# Altium footprint library SCH-29364_a_Library.PcbLib: 21 footprints (part 2 of 2)
Each footprint in its own frame and in the unit in brackets; x right, y up, seen from the top. Pads: shape width x height; smd on the part's side, far side on the other; paste and mask are expansions set on the pad; w line width, h text height; cw(c..) or ccw(c..) is an arc to the next point about the centre after c.
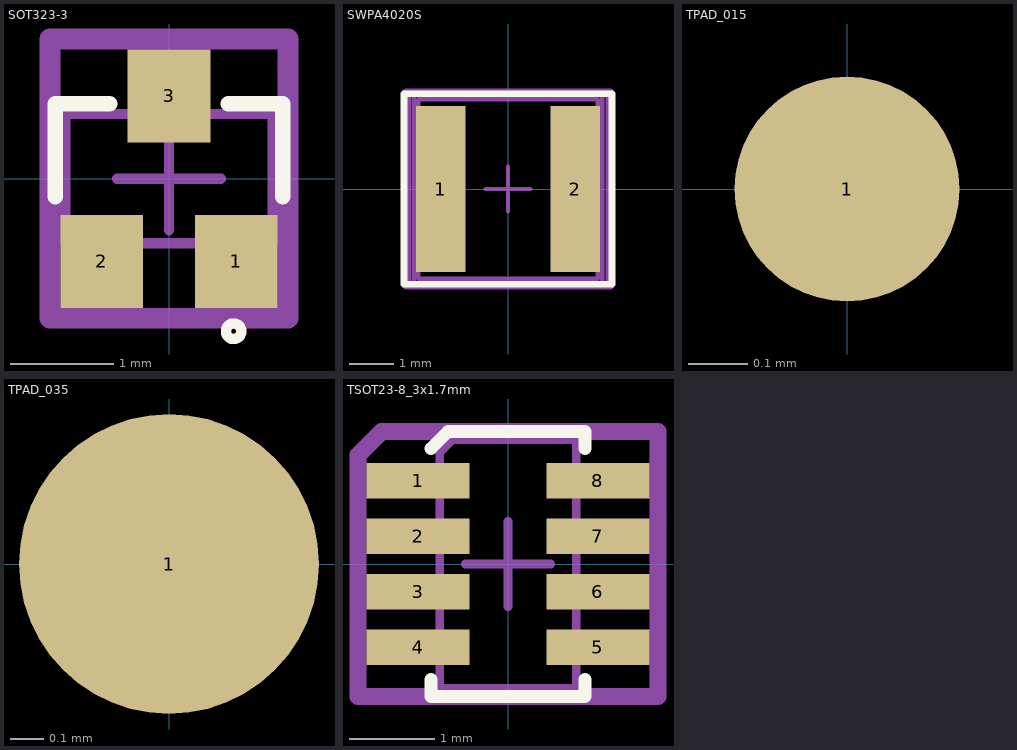
[diagram p1: the footprints below, top view; thin cyan lines are the x and y axes]

## SOT323-3 [mm]
height 0.9
pads (3):
  rect 0.8x0.9 smd paste+0 mask+0: 1(0.65,-0.8) 2(-0.65,-0.8) 3(0,0.8)
Top Overlay:
  circle w0.1: c0.625,-1.475 r0.075
  lines w0.15: -1.1,-0.175 -1.1,0.725 -0.575,0.725 ; 0.575,0.725 1.1,0.725 1.1,-0.175
Mechanical 10:
  lines w0.1: -1.15,-1.35 -1.15,1.35 1.15,1.35 1.15,-1.35 -1.15,-1.35
  text ".Designator" at 0,0 h1
Mechanical 12:
  lines w0.1: -1,-0.625 -1,0.625 1,0.625 1,-0.625 -1,-0.625
Mechanical 15:
  lines w0.1: -0.5,0 0.5,0 ; -0.345,0 0.345,0 ; 0,-0.5 0,0.5 ; 0,-0.345 0,0.345
  lines w0.2: -1.15,-1.35 -1.15,1.35 1.15,1.35 1.15,-1.35 -1.15,-1.35
3D body "Diode_Nexperia_BAV99W,115_eec.STEP": height 1, standoff 0, extent -1.05,-1.15 1.05,1.15

## SWPA4020S [mm]
height 2
pads (2):
  rect 1.1x3.7 smd: 1(-1.5,0) 2(1.5,0)
Top Overlay:
  lines w0.15: -2.325,-2.125 2.325,-2.125 2.325,2.125 -2.325,2.125 -2.325,-2.125
Mechanical 10:
  lines w0.1: -2.1,-2.1 -2.1,2.1 2.1,2.1 2.1,-2.1 -2.1,-2.1
  text ".Designator" at 0,0.188 h1
Mechanical 12:
  lines w0.1: -2,-2 -2,2 2,2 2,-2 -2,-2
Mechanical 15:
  lines w0.1: -0.5,0 0.5,0 ; 0,-0.5 0,0.5
  lines w0.2: -2.268,-2.15 -2.268,2.15 2.275,2.15 2.275,-2.15 -2.268,-2.15
3D body: height 0.25, standoff 0, extent -2.1,-2.1 2.1,2.1

## TPAD_015 [mil] "testpoint round 15 mil"
pads (1):
  round 15 smd mask+2: 1(0,0)

## TPAD_035 [mil] "testpoint round 35 mil"
pads (1):
  round 35 smd mask+2: 1(0,0)

## TSOT23-8_3x1.7mm [mm] "pitch 0.65mm"
height 1
pads (8):
  rect 1.205x0.415 smd paste+0 mask+0: 1(-1.05,0.975) 2(-1.05,0.325) 3(-1.05,-0.325) 4(-1.05,-0.975) 5(1.05,-0.975) 6(1.05,-0.325) 7(1.05,0.325) 8(1.05,0.975)
Top Overlay:
  lines w0.15: -0.9,-1.35 -0.9,-1.55 0.9,-1.55 0.9,-1.35 ; -0.9,1.35 -0.7,1.55 0.9,1.55 0.9,1.35
Mechanical 10:
  lines w0.1: -1.753,-1.55 1.753,-1.55 1.753,1.55 -1.475,1.55 -1.753,1.272 -1.753,-1.55
  text ".Designator" at 0,0.188 h1
Mechanical 12:
  lines w0.1: -0.8,-1.45 0.8,-1.45 0.8,1.45 -0.65,1.45 -0.8,1.3 -0.8,-1.45
Mechanical 15:
  lines w0.1: -0.5,0 0.5,0 ; 0,-0.5 0,0.5
  lines w0.2: -1.753,-1.55 1.753,-1.55 1.753,1.55 -1.475,1.55 -1.753,1.272 -1.753,-1.55
3D body "IC_Texas_Instruments_TPS62120DCNR_eec.STEP": height 0.25, standoff 0, extent -1.753,-1.55 1.753,1.55